# EAGLE library part AT32UC3A0 (library at32uc3)
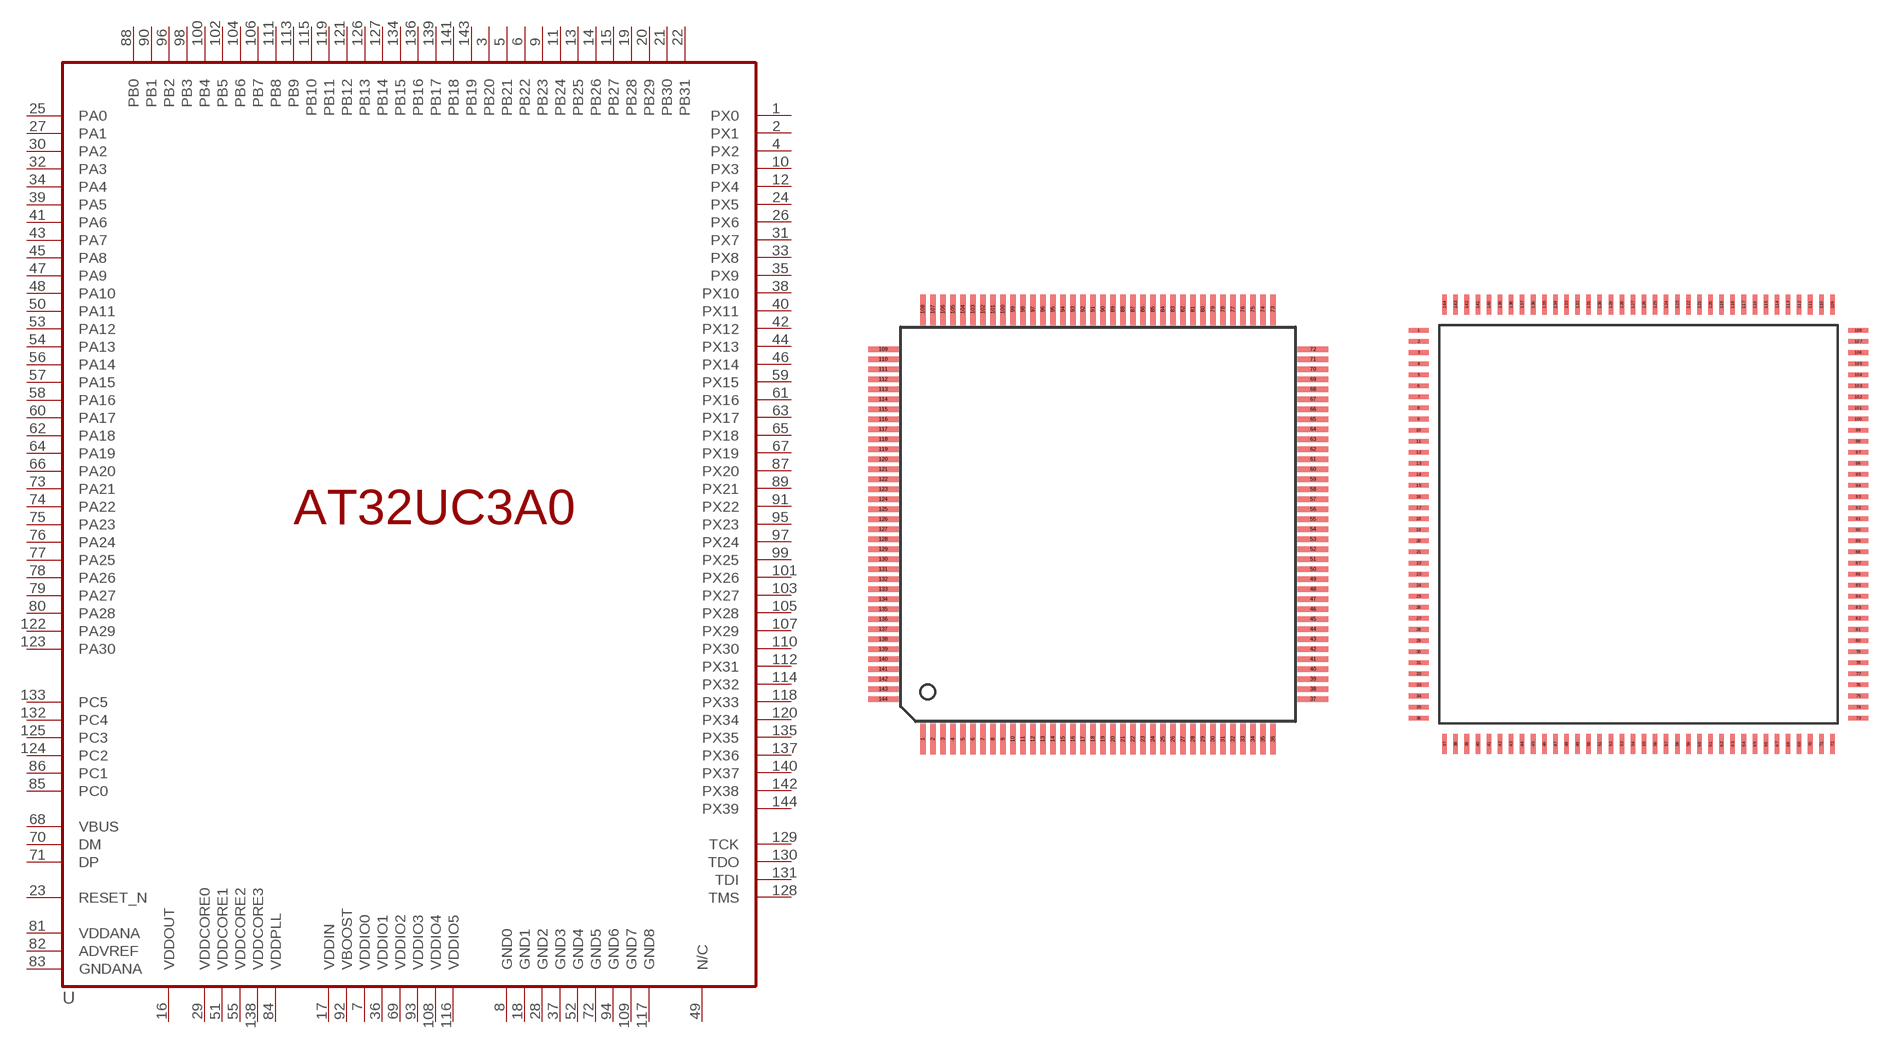
[diagram p2: symbol with the pads of TQFP144; footprints TQFP144, LQFP144]

Designator prefix -

## AT32UC3A0VQFP144TQFP144  [TQFP144]
1  PX0
2  PX1
3  PB20
4  PX2
5  PB21
6  PB22
7  VDDIO0
8  GND0
9  PB23
10  PX3
11  PB24
12  PX4
13  PB25
14  PB26
15  PB27
16  VDDOUT
17  VDDIN
18  GND1
19  PB28
20  PB29
21  PB30
22  PB31
23  RESET_N
24  PX5
25  PA0
26  PX6
27  PA1
28  GND2
29  VDDCORE0
30  PA2
31  PX7
32  PA3
33  PX8
34  PA4
35  PX9
36  VDDIO1
37  GND3
38  PX10
39  PA5
40  PX11
41  PA6
42  PX12
43  PA7
44  PX13
45  PA8
46  PX14
47  PA9
48  PA10
49  N/C
50  PA11
51  VDDCORE1
52  GND4
53  PA12
54  PA13
55  VDDCORE2
56  PA14
57  PA15
58  PA16
59  PX15
60  PA17
61  PX16
62  PA18
63  PX17
64  PA19
65  PX18
66  PA20
67  PX19
68  VBUS
69  VDDIO2
70  DM
71  DP
72  GND5
73  PA21
74  PA22
75  PA23
76  PA24
77  PA25
78  PA26
79  PA27
80  PA28
81  VDDANA
82  ADVREF
83  GNDANA
84  VDDPLL
85  PC0
86  PC1
87  PX20
88  PB0
89  PX21
90  PB1
91  PX22
92  VBOOST
93  VDDIO3
94  GND6
95  PX23
96  PB2
97  PX24
98  PB3
99  PX25
100  PB4
101  PX26
102  PB5
103  PX27
104  PB6
105  PX28
106  PB7
107  PX29
108  VDDIO4
109  GND7
110  PX30
111  PB8
112  PX31
113  PB9
114  PX32
115  PB10
116  VDDIO5
117  GND8
118  PX33
119  PB11
120  PX34
121  PB12
122  PA29
123  PA30
124  PC2
125  PC3
126  PB13
127  PB14
128  TMS
129  TCK
130  TDO
131  TDI
132  PC4
133  PC5
134  PB15
135  PX35
136  PB16
137  PX36
138  VDDCORE3
139  PB17
140  PX37
141  PB18
142  PX38
143  PB19
144  PX39

## AT32UC3A0LQFP144  [LQFP144]
1  PX0
2  PX1
3  PB20
4  PX2
5  PB21
6  PB22
7  VDDIO0
8  GND0
9  PB23
10  PX3
11  PB24
12  PX4
13  PB25
14  PB26
15  PB27
16  VDDOUT
17  VDDIN
18  GND1
19  PB28
20  PB29
21  PB30
22  PB31
23  RESET_N
24  PX5
25  PA0
26  PX6
27  PA1
28  GND2
29  VDDCORE0
30  PA2
31  PX7
32  PA3
33  PX8
34  PA4
35  PX9
36  VDDIO1
37  GND3
38  PX10
39  PA5
40  PX11
41  PA6
42  PX12
43  PA7
44  PX13
45  PA8
46  PX14
47  PA9
48  PA10
49  N/C
50  PA11
51  VDDCORE1
52  GND4
53  PA12
54  PA13
55  VDDCORE2
56  PA14
57  PA15
58  PA16
59  PX15
60  PA17
61  PX16
62  PA18
63  PX17
64  PA19
65  PX18
66  PA20
67  PX19
68  VBUS
69  VDDIO2
70  DM
71  DP
72  GND6
73  PA21
74  PA22
75  PA23
76  PA24
77  PA25
78  PA26
79  PA27
80  PA28
81  VDDANA
82  ADVREF
83  GNDANA
84  VDDPLL
85  PC0
86  PC1
87  PX20
88  PB0
89  PX21
90  PB1
91  PX22
92  VDDIO3
93  VDDIO4
94  GND5
95  PX23
96  PB2
97  PX24
98  PB3
99  PX25
100  PB4
101  PX26
102  PB5
103  PX27
104  PB6
105  PX28
106  PB7
107  PX29
108  VDDIO5
109  GND7
110  PX30
111  PB8
112  PX31
113  PB9
114  PX32
115  PB10
116  VBOOST
117  GND8
118  PX33
119  PB11
120  PX34
121  PB12
122  PA29
123  PA30
124  PC2
125  PC3
126  PB13
127  PB14
128  TMS
129  TCK
130  TDO
131  TDI
132  PC4
133  PC5
134  PB15
135  PX35
136  PB16
137  PX36
138  VDDCORE3
139  PB17
140  PX37
141  PB18
142  PX38
143  PB19
144  PX39

## Footprint TQFP144 (pad centres in mm)
smd 0.27 x 1.5: 1 -8.75,-12.02; 2 -8.25,-12.02; 3 -7.75,-12.02; 4 -7.25,-12.02; 5 -6.75,-12.02; 6 -6.25,-12.02; 7 -5.75,-12.02; 8 -5.25,-12.02; 9 -4.75,-12.02; 10 -4.25,-12.02; 11 -3.75,-12.02; 12 -3.25,-12.02; 13 -2.75,-12.02; 14 -2.25,-12.02; 15 -1.75,-12.02; 16 -1.25,-12.02; 17 -0.75,-12.02; 18 -0.25,-12.02; 19 0.25,-12.02; 20 0.75,-12.02; 21 1.25,-12.02; 22 1.75,-12.02; 23 2.25,-12.02; 24 2.75,-12.02; 25 3.25,-12.02; 26 3.75,-12.02; 27 4.25,-12.02; 28 4.75,-12.02; 29 5.25,-12.02; 30 5.75,-12.02; 31 6.25,-12.02; 32 6.75,-12.02; 33 7.25,-12.02; 34 7.75,-12.02; 35 8.25,-12.02; 36 8.75,-12.02; 73 8.75,9.48; 74 8.25,9.48; 75 7.75,9.48; 76 7.25,9.48; 77 6.75,9.48; 78 6.25,9.48; 79 5.75,9.48; 80 5.25,9.48; 81 4.75,9.48; 82 4.25,9.48; 83 3.75,9.48; 84 3.25,9.48; 85 2.75,9.48; 86 2.25,9.48; 87 1.75,9.48; 88 1.25,9.48; 89 0.75,9.48; 90 0.25,9.48; 91 -0.25,9.48; 92 -0.75,9.48; 93 -1.25,9.48; 94 -1.75,9.48; 95 -2.25,9.48; 96 -2.75,9.48; 97 -3.25,9.48; 98 -3.75,9.48; 99 -4.25,9.48; 100 -4.75,9.48; 101 -5.25,9.48; 102 -5.75,9.48; 103 -6.25,9.48; 104 -6.75,9.48; 105 -7.25,9.48; 106 -7.75,9.48; 107 -8.25,9.48; 108 -8.75,9.48
smd 1.5 x 0.27: 37 10.75,-10.02; 38 10.75,-9.52; 39 10.75,-9.02; 40 10.75,-8.52; 41 10.75,-8.02; 42 10.75,-7.52; 43 10.75,-7.02; 44 10.75,-6.52; 45 10.75,-6.02; 46 10.75,-5.52; 47 10.75,-5.02; 48 10.75,-4.52; 49 10.75,-4.02; 50 10.75,-3.52; 51 10.75,-3.02; 52 10.75,-2.52; 53 10.75,-2.02; 54 10.75,-1.52; 55 10.75,-1.02; 56 10.75,-0.52; 57 10.75,-0.02; 58 10.75,0.48; 59 10.75,0.98; 60 10.75,1.48; 61 10.75,1.98; 62 10.75,2.48; 63 10.75,2.98; 64 10.75,3.48; 65 10.75,3.98; 66 10.75,4.48; 67 10.75,4.98; 68 10.75,5.48; 69 10.75,5.98; 70 10.75,6.48; 71 10.75,6.98; 72 10.75,7.48; 109 -10.75,7.48; 110 -10.75,6.98; 111 -10.75,6.48; 112 -10.75,5.98; 113 -10.75,5.48; 114 -10.75,4.98; 115 -10.75,4.48; 116 -10.75,3.98; 117 -10.75,3.48; 118 -10.75,2.98; 119 -10.75,2.48; 120 -10.75,1.98; 121 -10.75,1.48; 122 -10.75,0.98; 123 -10.75,0.48; 124 -10.75,-0.02; 125 -10.75,-0.52; 126 -10.75,-1.02; 127 -10.75,-1.52; 128 -10.75,-2.02; 129 -10.75,-2.52; 130 -10.75,-3.02; 131 -10.75,-3.52; 132 -10.75,-4.02; 133 -10.75,-4.52; 134 -10.75,-5.02; 135 -10.75,-5.52; 136 -10.75,-6.02; 137 -10.75,-6.52; 138 -10.75,-7.02; 139 -10.75,-7.52; 140 -10.75,-8.02; 141 -10.75,-8.52; 142 -10.75,-9.02; 143 -10.75,-9.52; 144 -10.75,-10.02

## Footprint LQFP144 (pad centres in mm)
smd 1.016 x 0.229: 1 -10.986,9.693; 2 -10.986,9.139; 3 -10.986,8.585; 4 -10.986,8.031; 5 -10.986,7.477; 6 -10.986,6.923; 7 -10.986,6.37; 8 -10.986,5.816; 9 -10.986,5.262; 10 -10.986,4.708; 11 -10.986,4.154; 12 -10.986,3.6; 13 -10.986,3.046; 14 -10.986,2.492; 15 -10.986,1.938; 16 -10.986,1.385; 17 -10.986,0.831; 18 -10.986,0.277; 19 -10.986,-0.277; 20 -10.986,-0.831; 21 -10.986,-1.385; 22 -10.986,-1.938; 23 -10.986,-2.492; 24 -10.986,-3.046; 25 -10.986,-3.6; 26 -10.986,-4.154; 27 -10.986,-4.708; 28 -10.986,-5.262; 29 -10.986,-5.816; 30 -10.986,-6.369; 31 -10.986,-6.923; 32 -10.986,-7.477; 33 -10.986,-8.031; 34 -10.986,-8.585; 35 -10.986,-9.139; 36 -10.986,-9.693; 73 10.986,-9.692; 74 10.986,-9.139; 75 10.986,-8.585; 76 10.986,-8.031; 77 10.986,-7.477; 78 10.986,-6.923; 79 10.986,-6.369; 80 10.986,-5.815; 81 10.986,-5.262; 82 10.986,-4.708; 83 10.986,-4.154; 84 10.986,-3.6; 85 10.986,-3.046; 86 10.986,-2.492; 87 10.986,-1.938; 88 10.986,-1.385; 89 10.986,-0.831; 90 10.986,-0.277; 91 10.986,0.277; 92 10.986,0.831; 93 10.986,1.385; 94 10.986,1.939; 95 10.986,2.493; 96 10.986,3.046; 97 10.986,3.6; 98 10.986,4.154; 99 10.986,4.708; 100 10.986,5.262; 101 10.986,5.816; 102 10.986,6.37; 103 10.986,6.923; 104 10.986,7.477; 105 10.986,8.031; 106 10.986,8.585; 107 10.986,9.139; 108 10.986,9.693
smd 0.229 x 1.016: 37 -9.692,-10.986; 38 -9.139,-10.986; 39 -8.585,-10.986; 40 -8.031,-10.986; 41 -7.477,-10.986; 42 -6.923,-10.986; 43 -6.369,-10.986; 44 -5.815,-10.986; 45 -5.261,-10.986; 46 -4.708,-10.986; 47 -4.154,-10.986; 48 -3.6,-10.986; 49 -3.046,-10.986; 50 -2.492,-10.986; 51 -1.938,-10.986; 52 -1.385,-10.986; 53 -0.831,-10.986; 54 -0.277,-10.986; 55 0.277,-10.986; 56 0.831,-10.986; 57 1.385,-10.986; 58 1.939,-10.986; 59 2.492,-10.986; 60 3.046,-10.986; 61 3.6,-10.986; 62 4.154,-10.986; 63 4.708,-10.986; 64 5.262,-10.986; 65 5.816,-10.986; 66 6.369,-10.986; 67 6.923,-10.986; 68 7.477,-10.986; 69 8.031,-10.986; 70 8.585,-10.986; 71 9.139,-10.986; 72 9.693,-10.986; 109 9.693,10.986; 110 9.139,10.986; 111 8.585,10.986; 112 8.031,10.986; 113 7.477,10.986; 114 6.923,10.986; 115 6.37,10.986; 116 5.816,10.986; 117 5.262,10.986; 118 4.708,10.986; 119 4.154,10.986; 120 3.6,10.986; 121 3.046,10.986; 122 2.492,10.986; 123 1.938,10.986; 124 1.385,10.986; 125 0.831,10.986; 126 0.277,10.986; 127 -0.277,10.986; 128 -0.831,10.986; 129 -1.385,10.986; 130 -1.938,10.986; 131 -2.492,10.986; 132 -3.046,10.986; 133 -3.6,10.986; 134 -4.154,10.986; 135 -4.708,10.986; 136 -5.262,10.986; 137 -5.816,10.986; 138 -6.369,10.986; 139 -6.923,10.986; 140 -7.477,10.986; 141 -8.031,10.986; 142 -8.585,10.986; 143 -9.139,10.986; 144 -9.693,10.986